# Altium footprint library Passive.PcbLib: 9 footprints
Each footprint in its own frame and in the unit in brackets; x right, y up, seen from the top. Pads: shape width x height; smd on the part's side, far side on the other; paste and mask are expansions set on the pad; w line width, h text height; cw(c..) or ccw(c..) is an arc to the next point about the centre after c.
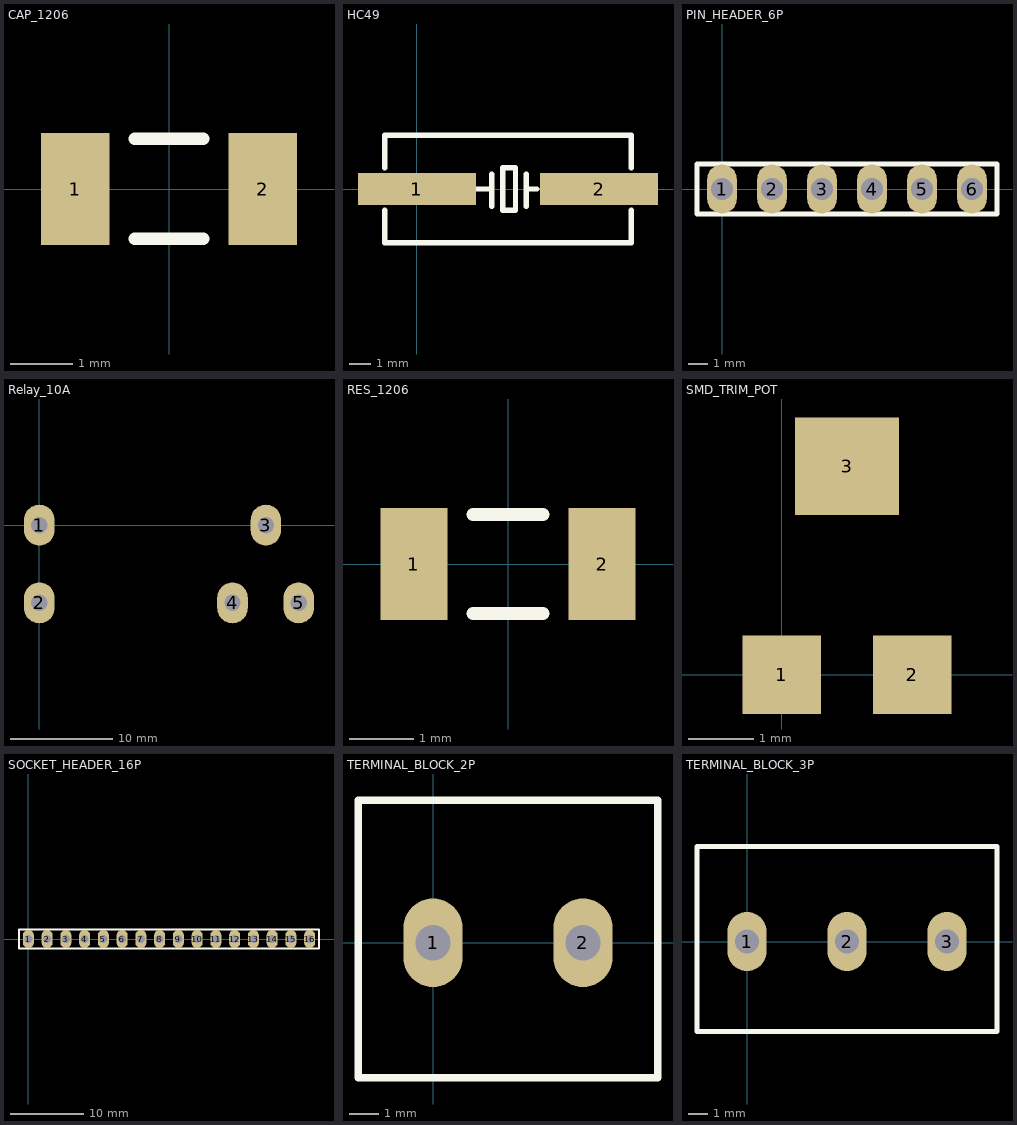
[diagram p0: the footprints below, top view; thin cyan lines are the x and y axes]

## CAP_1206 [mm]
height 0.6
pads (2):
  rect 1.1x1.8 smd: 1(-1.5,0) 2(1.5,0)
Top Overlay:
  lines w0.2: -0.55,-0.8 0.55,-0.8 ; -0.55,0.8 0.55,0.8
3D body: height 1, standoff 0, extent -1.6,-0.762 1.6,0.838

## HC49 [mm]
height 4.5
pads (2):
  rect 5.5x1.5 smd: 1(0,0) 2(8.5,0)
Top Overlay:
  lines w0.254: -1.5,-1 -1.5,-2.5 10,-2.5 10,-1 ; -1.5,1 -1.5,2.5 10,2.5 10,1 ; 2.8,0 3.5,0 ; 3.5,-0.8 3.5,0.7 ; 5.1,-0.8 5.1,0.7 ; 5.1,0 5.6,0 ; 4,-1 4.6,-1 4.6,1 4,1 4,-1
3D body: height 4.3, standoff 0, extent -2.1,-2.415 10.7,2.415

## PIN_HEADER_6P [mm]
pads (6):
  oval 1.5x2.5 hole 1.1: 1(0,0) 2(2.54,0) 3(5.08,0) 4(7.62,0) 5(10.16,0) 6(12.7,0)
Top Overlay:
  lines w0.254: -1.27,-1.27 13.97,-1.27 13.97,1.27 -1.27,1.27 -1.27,0 -1.27,-1.27
3D body: height 8, standoff -3, extent -1.27,-1.27 3.81,1.27
3D body: height 8, standoff -3, extent 3.81,-1.27 8.89,1.27
3D body: height 8, standoff -3, extent 8.89,-1.27 13.97,1.27

## Relay_10A [mm]
pads (5):
  oval 3x4 hole 1.6: 1(0,0) 2(0,-7.62) 3(22.2,0) 4(18.923,-7.62) 5(25.4,-7.62)
3D body: height 15.8, standoff -3, extent -1.5,-9 27.3,1.5

## RES_1206 [mm] "Chip Resistor, 2-Leads, Body 3,20x1,60mm, IPC Medium Density"
height 0.6
pads (2):
  rect 1.05x1.75 smd: 1(-1.475,0) 2(1.475,0)
Top Overlay:
  lines w0.2: -0.55,-0.775 0.55,-0.775 ; -0.55,0.775 0.55,0.775
3D body: height 0.85, standoff 0, extent -1.675,-0.865 1.675,0.865

## SMD_TRIM_POT [mm]
pads (3):
  rect 1.2x1.2 smd: 1(0,0) 2(2,0)
  rect 1.6x1.5 smd: 3(1,3.2)
3D body: height 1.95, standoff 0, extent -0.55,-0.15 2.55,3.54

## SOCKET_HEADER_16P [mm]
pads (16):
  oval 1.5x2.5 hole 1.1: 1(0,0) 2(2.54,0) 3(5.08,0) 4(7.62,0) 5(10.16,0) 6(12.7,0) 7(15.24,0) 8(17.78,0) 9(20.32,0) 10(22.86,0) 11(25.4,0) 12(27.94,0) 13(30.48,0) 14(33.02,0) 15(35.56,0) 16(38.1,0)
Top Overlay:
  lines w0.254: -1.27,-1.27 39.37,-1.27 39.37,1.27 -1.27,1.27 -1.27,0 -1.27,-1.27
3D body: height 8.55, standoff -3.05, extent 34.036,-1.25 39.616,1.25
3D body: height 8.55, standoff -3.05, extent 28.956,-1.25 34.536,1.25
3D body: height 8.55, standoff -3.05, extent 23.876,-1.25 29.456,1.25
3D body: height 8.55, standoff -3.05, extent 18.8,-1.25 24.38,1.25
3D body: height 8.55, standoff -3.05, extent 13.716,-1.25 19.296,1.25
3D body: height 8.55, standoff -3.05, extent 8.636,-1.25 14.216,1.25
3D body: height 8.55, standoff -3.05, extent 3.556,-1.25 9.136,1.25
3D body: height 8.55, standoff -3.05, extent -1.524,-1.25 4.056,1.25

## TERMINAL_BLOCK_2P [mm]
pads (2):
  oval 2x3 hole 1.2: 1(0,0) 2(5.08,0)
Top Overlay:
  lines w0.254: -2.54,-4.572 -2.54,0 -2.54,4.826 7.62,4.826 7.62,-4.572 -2.54,-4.572
3D body: height 15, standoff -3.5, extent -3.079,-4.826 7.651,4.674

## TERMINAL_BLOCK_3P [mm]
pads (3):
  oval 2x3 hole 1.2: 1(0,0) 2(5.08,0) 3(10.16,0)
Top Overlay:
  lines w0.254: -2.54,-4.572 12.7,-4.572 12.7,4.826 -2.54,4.826 -2.54,0 -2.54,-4.572
3D body: height 15.05, standoff -3.45, extent -3,-4.65 12.81,4.85